# Altium footprint library TQ2-5V.PcbLib: 1 footprints
Each footprint in its own frame and in the unit in brackets; x right, y up, seen from the top. Pads: shape width x height; smd on the part's side, far side on the other; paste and mask are expansions set on the pad; w line width, h text height; cw(c..) or ccw(c..) is an arc to the next point about the centre after c.
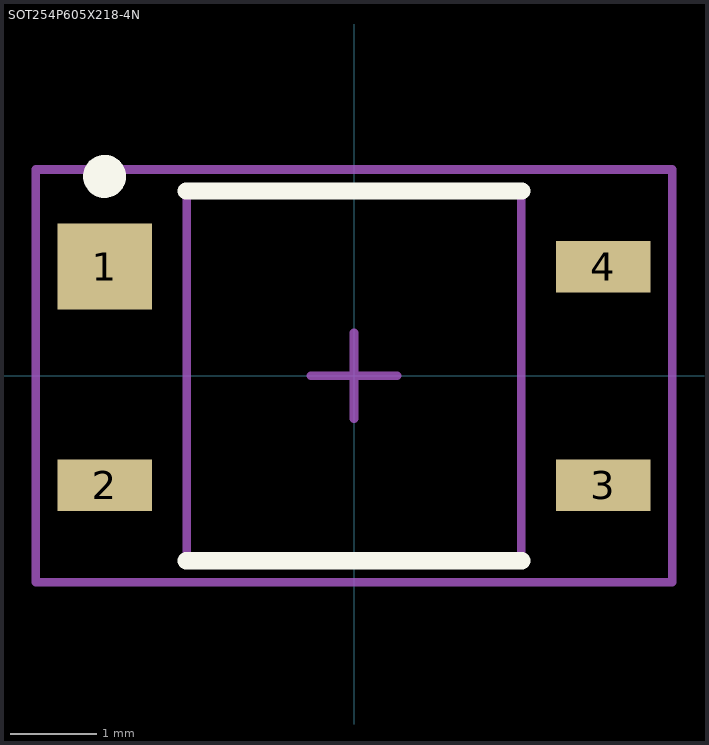
[diagram p0: the footprint, top view; thin cyan lines are the x and y axes]

## SOT254P605X218-4N [mm] "SOT143, 4-Leads, Body 4.3x6.1mm (max), Pitch 2.54mm, IPC Medium Density"
height 2.184
pads (4):
  rect 1.1x1 smd: 1(-2.9,1.27)
  rect 1.1x0.6 smd: 2(-2.9,-1.27) 3(2.9,-1.27) 4(2.9,1.27)
Top Overlay:
  circle w0.25: c-2.9,2.32 r0.125
  lines w0.2: -1.95,-2.15 1.95,-2.15 ; -1.95,2.15 1.95,2.15
Mechanical 13:
  lines w0.1: -1.945,-2.145 1.945,-2.145 1.945,2.145 -1.945,2.145 -1.945,-2.145
Mechanical 15:
  lines w0.1: -0.5,0 0.5,0 ; 0,-0.5 0,0.5 ; -3.7,-2.4 3.7,-2.4 3.7,2.4 -3.7,2.4 -3.7,-2.4
3D body: height 2.18, standoff 0.15, extent -1.945,-2.145 1.945,2.145